# Altium schematic symbol library AT89S52.SchLib: 12 symbols
Pins are listed as number, name and electrical type; pins without a type are passive.

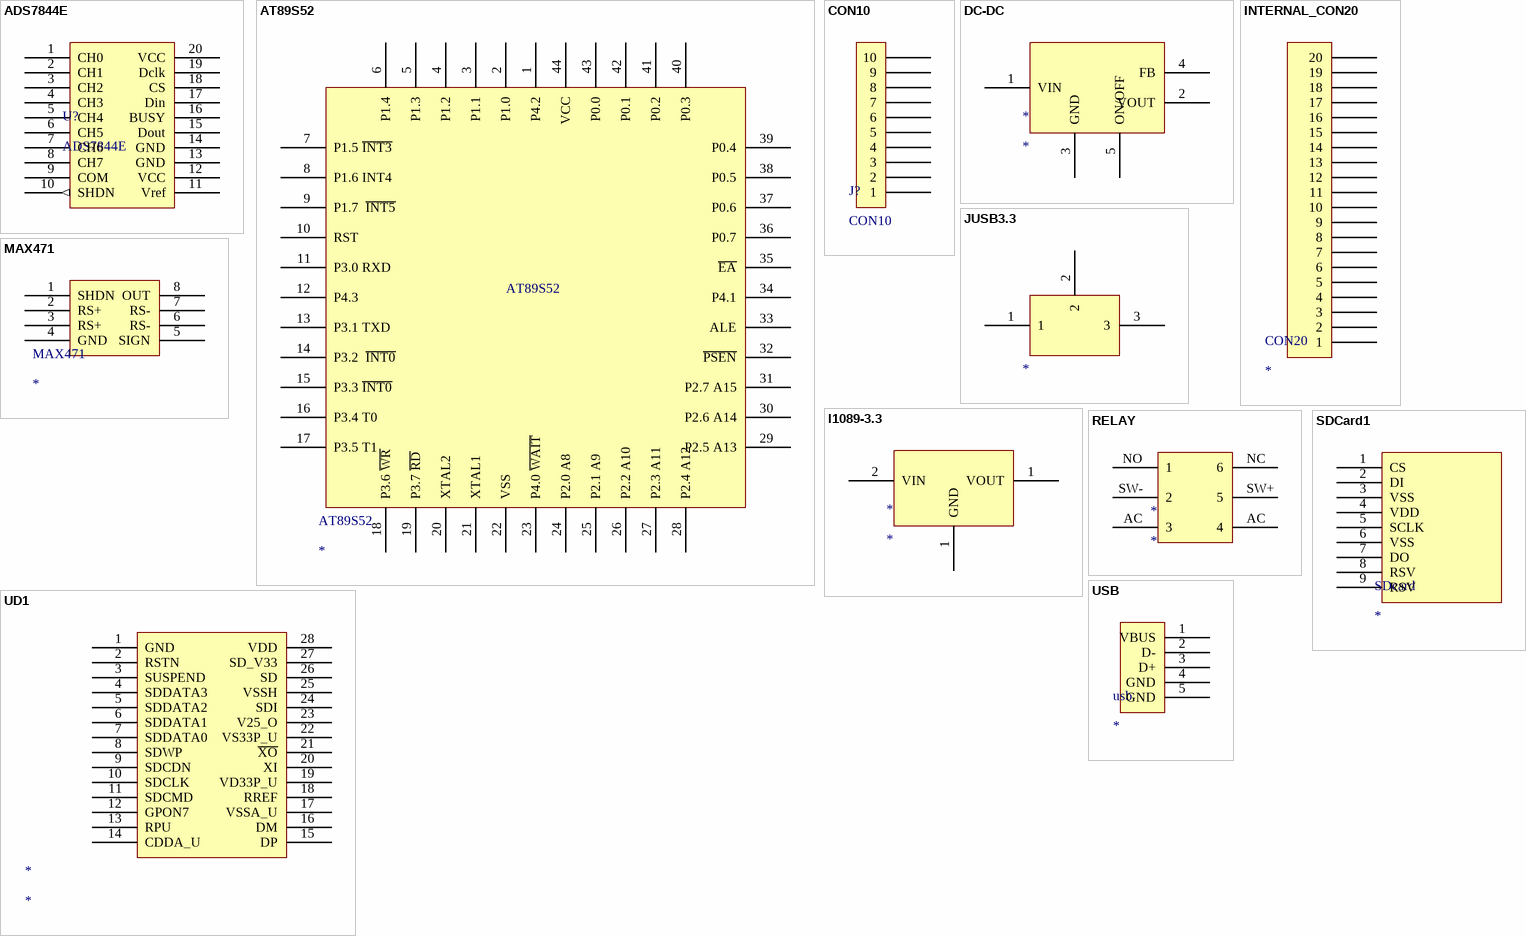
[diagram p0: symbols ADS7844E to USB]

## ADS7844E
designator U?
pins: 1 CH0, 2 CH1, 3 CH2, 4 CH3, 5 CH4, 6 CH5, 7 CH6, 8 CH7, 9 COM, 10 SHDN (out), 11 Vref, 12 VCC, 13 GND, 14 GND, 15 Dout, 16 BUSY, 17 Din, 18 CS, 19 Dclk, 20 VCC

## AT89S52
designator AT89S52
pins: 1 P4.2, 2 P1.0, 3 P1.1, 4 P1.2, 5 P1.3, 6 P1.4, 7 P1.5 ~{INT3}, 8 P1.6 INT4, 9 P1.7  ~{INT5}, 10 RST, 11 P3.0 RXD, 12 P4.3, 13 P3.1 TXD, 14 P3.2  ~{INT0}, 15 P3.3 ~{INT0}, 16 P3.4 T0, 17 P3.5 T1, 18 P3.6 ~{WR}, 19 P3.7 ~{RD}, 20 XTAL2, 21 XTAL1, 22 VSS, 23 P4.0 ~{WAIT}, 24 P2.0 A8, 25 P2.1 A9, 26 P2.2 A10, 27 P2.3 A11, 28 P2.4 A12, 29 P2.5 A13, 30 P2.6 A14, 31 P2.7 A15, 32 ~{PSEN}, 33 ALE, 34 P4.1, 35 ~{EA}, 36 P0.7, 37 P0.6, 38 P0.5, 39 P0.4, 40 P0.3, 41 P0.2, 42 P0.1, 43 P0.0, 44 VCC

## CON10
designator J?
pins: ?1 1, ?2 2, ?3 3, ?4 4, ?5 5, ?6 6, ?7 7, ?8 8, ?9 9, ?10 10

## DC-DC
designator *
pins: 1 VIN, 2 VOUT, 3 GND, 4 FB, 5 ON/OFF

## INTERNAL_CON20
designator CON20
pins: ?1 1, ?2 2, ?3 3, ?4 4, ?5 5, ?6 6, ?7 7, ?8 8, ?9 9, ?10 10, ?11 11, ?12 12, ?13 13, ?14 14, ?15 15, ?16 16, ?17 17, ?18 18, ?19 19, ?20 20

## JUSB3.3
designator ?
pins: 1, 2, 3

## l1089-3.3
designator *
pins: 1 GND, 1 VOUT, 2 VIN

## MAX471
designator MAX471
pins: 1 SHDN, 2 RS+, 3 RS+, 4 GND, 5 SIGN, 6 RS-, 7 RS-, 8 OUT

## RELAY
designator *
pins: AC 4, AC 3, NC 6, NO 1, SW+ 5, SW- 2

## SDCard1
designator SDcard
pins: 1 CS, 2 DI, 3 VSS, 4 VDD, 5 SCLK, 6 VSS, 7 DO, 8 RSV, 9 RSV

## UD1
designator *
pins: 1 GND, 2 RSTN, 3 SUSPEND, 4 SDDATA3, 5 SDDATA2, 6 SDDATA1, 7 SDDATA0, 8 SDWP, 9 SDCDN, 10 SDCLK, 11 SDCMD, 12 GPON7, 13 RPU, 14 CDDA_U, 15 DP, 16 DM, 17 VSSA_U, 18 RREF, 19 VD33P_U, 20 XI, 21 ~{XO}, 22 VS33P_U, 23 V25_O, 24 SDI, 25 VSSH, 26 SD, 27 SD_V33, 28 VDD

## USB
designator usb
pins: 1 VBUS, 2 D-, 3 D+, 4 GND, 5 GND